# Altium integrated library DATN.IntLib: 12 symbols
Pins are listed as number, name and electrical type; pins without a type are passive.

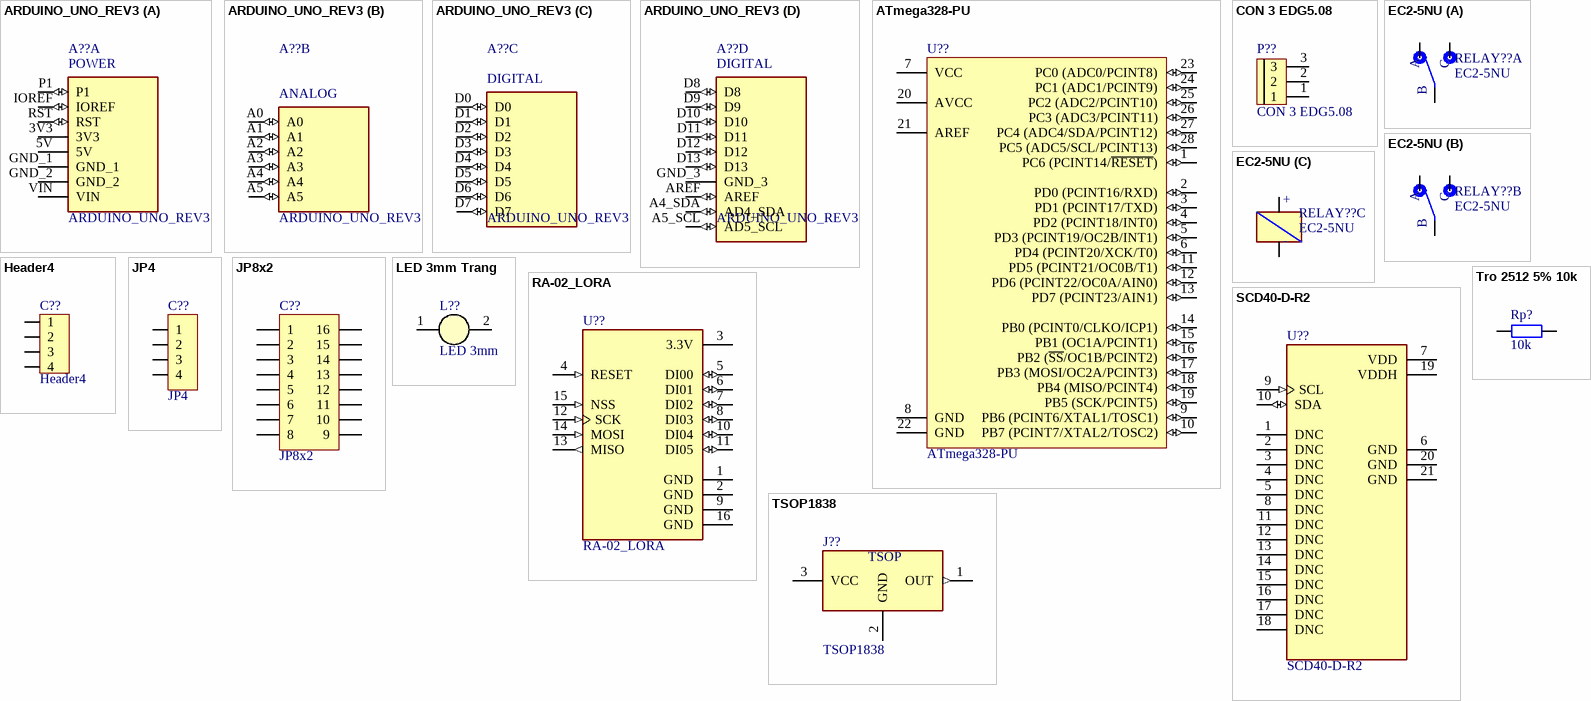
[diagram p0: symbols ARDUINO_UNO_REV3 to TSOP1838]

## ARDUINO_UNO_REV3
designator A??
Microcontroller board based on the ATmega328P.; MP: ARDUINO UNO REV3; SnapEDA_Link: https://www.snapeda.com/parts/ARDUINO%20UNO%20REV3/Arduino/view-part/?ref=snap; Package: Non-Standard Arduino; Value: *; MF: Arduino; Check_prices: https://www.snapeda.com/parts/ARDUINO%20UNO%20REV3/Arduino/view-part/?ref=eda
footprint ARDUINO_ARDUINO_UNO_REV3
part A pins: 3V3 (power), 5V (power), GND_1 (power), GND_2 (power), IOREF (io), P1 (io), RST (io), VIN (power)
part B pins: A0 (io), A1 (io), A2 (io), A3 (io), A4 (io), A5 (io)
part C pins: D0 (io), D1 (io), D2 (io), D3 (io), D4 (io), D5 (io), D6 (io), D7 (io)
part D pins: A4_SDA AD4_SDA (io), A5_SCL AD5_SCL (io), AREF (io), D8 (io), D9 (io), D10 (io), D11 (io), D12 (io), D13 (io), GND_3 (power)
part A text: POWER
part B text: ANALOG
part C text: DIGITAL
part D text: DIGITAL

## ATmega328-PU
designator U??
8-bit AVR Microcontroller, 32KB Flash, 1KB EEPROM, 2KB SRAM, 28-pin PDIP, Industrial Grade (-40°C to 85°C); Published: 1-Apr-2010; DatasheetVersion: revA, Jan-2010; PackageVersion: revB, Sep-2001; PackageReference: 28P3; Publisher: Altium Limited; PackageDescription: 28-lead (0.300"/7.62mm Wide) Plastic Dual Inline Package (PDIP); Supplier 1: Digi-Key; Supplier Part Number 1: ATMEGA328-PU-ND; Supplier 2: Mouser; Supplier Part Number 2: 556-ATMEGA328-PU; ComponentLink1Description: Manufacturer Link; ComponentLink1URL: http://www.atmel.com/products/avr/default.asp?; ComponentLink2Description: ATmega48A/48PA/88A/88PA/168A/168PA/328/328P Datasheet; ComponentLink2URL: http://www.atmel.com/dyn/resources/prod_documents/8271.pdf; ComponentLink3Description: ATmega48A/48PA/88A/88PA/168A/168PA/328/328P Summary; ComponentLink3URL: http://www.atmel.com/dyn/resources/prod_documents/8271S.pdf; ComponentLink4Description: Atmel.com Home; ComponentLink4URL: http://www.atmel.com
footprint DIP28 (28 PIN, W 300mil, Pin to pin 100mil)
pins: 1 PC6 (PCINT14/~{RESET}) (io), 2 PD0 (PCINT16/RXD) (io), 3 PD1 (PCINT17/TXD) (io), 4 PD2 (PCINT18/INT0) (io), 5 PD3 (PCINT19/OC2B/INT1) (io), 6 PD4 (PCINT20/XCK/T0) (io), 7 VCC (power), 8 GND (power), 9 PB6 (PCINT6/XTAL1/TOSC1) (io), 10 PB7 (PCINT7/XTAL2/TOSC2) (io), 11 PD5 (PCINT21/OC0B/T1) (io), 12 PD6 (PCINT22/OC0A/AIN0) (io), 13 PD7 (PCINT23/AIN1) (io), 14 PB0 (PCINT0/CLKO/ICP1) (io), 15 PB1 (OC1A/PCINT1) (io), 16 PB2 (~{SS}/OC1B/PCINT2) (io), 17 PB3 (MOSI/OC2A/PCINT3) (io), 18 PB4 (MISO/PCINT4) (io), 19 PB5 (SCK/PCINT5) (io), 20 AVCC (power), 21 AREF (power), 22 GND (power), 23 PC0 (ADC0/PCINT8) (io), 24 PC1 (ADC1/PCINT9) (io), 25 PC2 (ADC2/PCINT10) (io), 26 PC3 (ADC3/PCINT11) (io), 27 PC4 (ADC4/SDA/PCINT12) (io), 28 PC5 (ADC5/SCL/PCINT13) (io)

## CON 3 EDG5.08
designator P??
Cắm; Ten_Linh_Kien: CON 3 2EDG5.08-3P 5.08MM ( Xanh Cong); Ma_Hang: MH000760; Ghi_Chu: *; Kieu_Chan: *; Don_Vi: Con; Chung_Loai: Cắm
footprint CON 3 3EDG5.08
pins: 1, 2, 3

## EC2-5NU
designator RELAY??
RELAY, SIGNAL, DPDT, 250VAC, 220VDC, 2A; Coil Voltage: 5VDC; Contact Configuration: DPDT; Contact Current: 2A; Product Range: EC2 & EE2 Series; Relay Mounting: Through Hole; Coil Type: Non Latching; Relay Terminals: Solder; Contact Voltage VAC: 250V; Cont; MF: Nexem; SnapEDA_Link: https://www.snapeda.com/parts/EC2-5NU/nexem/view-part/?ref=snap; Package: None; Value: *; MP: EC2-5NU; Check_prices: https://www.snapeda.com/parts/EC2-5NU/nexem/view-part/?ref=eda
footprint 8-PIN
part A pins: 3 A, 4 B, 5 C
part B pins: 3 A, 4 B, 5 C
part C pins: 1 POS (io), 12 NEG (io)
part C text: +; -

## Header4
designator C??
Header IDC, 4 x 1 Pin Vertical 2.54mm Pitch (Non-Boxed, Male); Manufacturer: W¨¹rth Elektronik eiSos GmbH; partNo: 613002143121; ComponentLink1 Description: Manufacturer; ComponentLink2 Description: Datasheet; NoPins: 02; Created Date: 29 March 2013; ComponentLink1URL: http://www.we-online.com; ComponentLink2URL: http://katalog.we-online.de/em/datasheet/6130xx143121.pdf; Created by: Karrer Zheng
footprint HDR4 (Connector; Header; 4 Position)
footprint Header4 (CON4)
pins: 1, 2, 3, 4

## JP4
designator C??
WR-PHD 2.54 mm Angled Socket Header; Manufacturer: W¨¹rth Elektronik eiSos GmbH; partNo: 613004143121; ComponentLink1 Description: Manufacturer; ComponentLink2 Description: Datasheet; NoPins: 04; Created Date: 29 March 2013; ComponentLink1URL: http://www.we-online.com; ComponentLink2URL: http://katalog.we-online.de/em/datasheet/6130xx143121.pdf; Created by: Karrer Zheng
footprint JP4-C1T (4 row, straight, gold plating)
footprint JP4-D1C (4 pins, 1 row, right angled, gold plating)
footprint JP4-C1C (04p 1 row Right angle)
footprint JP4-D1C (4 pins, 1 row, right angled, gold plating)
pins: 1, 2, 3, 4

## JP8x2
designator C??
WR-PHD 2.54 mm Dual Socket Header; Manufacturer: W¨¹rth Elektronik eiSos GmbH; partNo: 61301621821; ComponentLink1 Description: Manufacturer; ComponentLink2 Description: Datasheet; NoPins: 16; Created Date: 29 March 2013; ComponentLink1URL: http://www.we-online.com; ComponentLink2URL: http://katalog.we-online.de/em/datasheet/6130xx21821.pdf; Created by: Karrer Zheng
footprint JP8-C2T (16 pins, dual row, straight, gold plating)
footprint JP8-D2T (16 pins, dual pin, straight, gold plating)
footprint JP8-D2C (16 pins, dual row, right angled, gold plating)
footprint JP8-C2C (16p 2 rows Right angle)
pins: 1, 2, 3, 4, 5, 6, 7, 8, 9, 10, 11, 12, 13, 14, 15, 16

## LED 3mm Trang
designator L??, comment LED 3mm
Cắm; Don_Vi: Con; Ma_Hang: MH009001; Ten_Linh_Kien: LED 3MM Trắng SS (1000c); Ghi_Chu: *; Kieu_Chan: *; Chung_Loai: Cắm
footprint LED-3MM-WHITE (LED 2 PIN, 3ly Only colour)
pins: 1 A, 2 K

## RA-02_LORA
designator U??
Ra-02 LoRa RF M5Stack Platform Evaluation Expansion Board; Price: None; Availability: Unavailable; MP: RA-02_LORA; Value: *; Package: None
footprint MODULE_RA-02_LORA
pins: 1 GND (power), 2 GND (power), 3 3.3V (power), 4 RESET (in), 5 DI00 (io), 6 DI01 (io), 7 DI02 (io), 8 DI03 (io), 9 GND (power), 10 DI04 (io), 11 DI05 (io), 12 SCK (in), 13 MISO (out), 14 MOSI (in), 15 NSS (in), 16 GND (power)

## SCD40-D-R2
designator U??
Air Quality Sensor CO2 Sensor 2.5V/3.3V/5V 20-Pin SMD EP; MF: Sensirion AG; SnapEDA_Link: https://www.snapeda.com/parts/SCD40-D-R2/Sensirion+AG/view-part/?ref=snap; Package: None; Value: *; MP: SCD40-D-R2; Check_prices: https://www.snapeda.com/parts/SCD40-D-R2/Sensirion+AG/view-part/?ref=eda
footprint XDCR_SCD40-D-R2
pins: 1 DNC, 2 DNC, 3 DNC, 4 DNC, 5 DNC, 6 GND (power), 7 VDD (power), 8 DNC, 9 SCL (in), 10 SDA (io), 11 DNC, 12 DNC, 13 DNC, 14 DNC, 15 DNC, 16 DNC, 17 DNC, 18 DNC, 19 VDDH (power), 20 GND (power), 21 GND (power)

## Tro 2512 5% 10k
designator Rp?, comment 10k
Dán; Don_Vi: Con; Ten_Linh_Kien: Trở 2512 5% 103-10k 1W; So_Chan: 2; Ma_Hang: MH003439; Chung_Loai: Dán; Kieu_Chan: *
footprint tro smd 2512
pins: 1, 2

## TSOP1838
designator J??
IR Remote Receiver 38KHz 35m 3-Pin; MF: Vishay; SnapEDA_Link: https://www.snapeda.com/parts/TSOP1838/Vishay/view-part/?ref=snap; Package: None; Value: *; MP: TSOP1838; Check_prices: https://www.snapeda.com/parts/TSOP1838/Vishay/view-part/?ref=eda
footprint TSOP1838
pins: 1 OUT (out), 2 GND (power), 3 VCC (power)
text: TSOP